# Altium schematic symbol library TEP-AltiumLib-Discretes.SCHLIB: 16 symbols
Pins are listed as number, name and electrical type; pins without a type are passive.

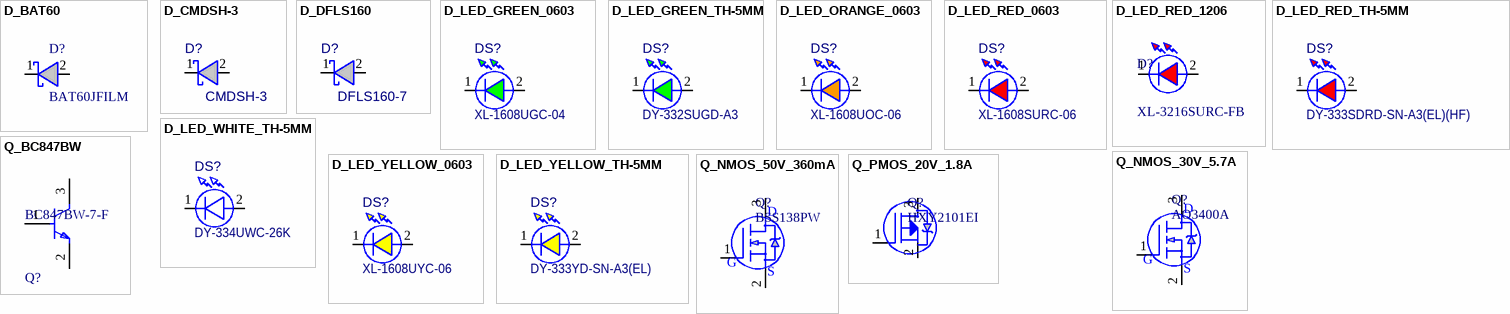
[diagram p0: symbols D_BAT60 to Q_PMOS_20V_1.8A]

## D_BAT60
designator D?, comment BAT60JFILM
Schottky Diode 10V 3A SOD323; Manufacturer 1: ST; Manufacturer Part Number 1: BAT60JFILM; Mounting Technology: SMT; Supplier 1: LCSC; Supplier Part Number 1: C133103
footprint D_SOD323N
pins: 1 K, 2 A

## D_CMDSH-3
designator D?, comment CMDSH-3
Schottky Diode 30V 100mA SOD-323; Manufacturer 1: Central Semiconductor; Value: CMDSH-3; Manufacturer Part Number 1: CMDSH-3; Mounting Technology: SMT; Supplier 1: LCSC; Supplier Part Number 1: C5240485
footprint D_SOD323N
pins: 1 K, 2 A

## D_DFLS160
designator D?, comment DFLS160-7
Schottky Diode 60V 1A; Manufacturer 1: Diodes Incorporated; Value: DFLS160-7; Manufacturer Part Number 1: DFLS160-7; Mounting Technology: SMT; Supplier 1: LCSC; Supplier 2: DigiKey; Supplier Part Number 1: C177023; Supplier Part Number 2: DFLS160DICT-ND
footprint D_SOD123 (diode)
pins: 1 K, 2 A

## D_LED_GREEN_0603
designator DS?, comment XL-1608UGC-04
LED Green Clear 40mcd 140deg; Manufacturer 1: XINGLIGHT; Code CEGEP: KLEDVC0603; Value: Green; Manufacturer 2: Wurth; Manufacturer Part Number 1: XL-1608UGC-04; Manufacturer Part Number 2: 150060VS75000; Mounting Technology: SMT; Supplier 1: LCSC; Supplier 2: Digikey; Supplier Part Number 1: C965804; Supplier Part Number 2: 732-4980-1-ND
footprint D_LED_0603 (Chip LED, 2-Leads, Body 1.6x0.8mm, IPC Medium Density)
pins: 1 K, 2 A

## D_LED_GREEN_TH-5MM
designator DS?, comment DY-332SUGD-A3
LED Green Difused; Manufacturer 1: TONYU; Value: Verte; Manufacturer Part Number 1: DY-332SUGD-A3; Mounting Technology: TH; Supplier 1: LCSC; Supplier Part Number 1: C7470788
footprint D_LED_TH_5MM_VERT (LED Green 5mm, 2-Leads 2.54mm)
pins: 1 K, 2 A

## D_LED_ORANGE_0603
designator DS?, comment XL-1608UOC-06
LED Orange Clear; Manufacturer 1: XINGLIGHT; Code CEGEP: KLEDOC0603; Value: Orange; Manufacturer 2: Wurth; Manufacturer Part Number 1: XL-1608UOC-06; Manufacturer Part Number 2: 150060AS75000; Mounting Technology: SMT; Supplier 1: LCSC; Supplier 2: Digikey; Supplier Part Number 1: C965800; Supplier Part Number 2: 732-150060AS75000CT-ND
footprint D_LED_0603 (Chip LED, 2-Leads, Body 1.6x0.8mm, IPC Medium Density)
pins: 1 K, 2 A

## D_LED_RED_0603
designator DS?, comment XL-1608SURC-06
LED Red Clear 60mcd 140deg; Manufacturer 1: XINGLIGHT; Code CEGEP: KLEDRC0603; Value: Red; Manufacturer 2: Wurth; Manufacturer Part Number 1: XL-1608SURC-06; Manufacturer Part Number 2: 150060SS75000; Mounting Technology: SMT; Supplier 1: LCSC; Supplier 2: Digikey; Supplier Part Number 1: C965799; Supplier Part Number 2: 732-4979-1-ND
footprint D_LED_0603 (Chip LED, 2-Leads, Body 1.6x0.8mm, IPC Medium Density)
pins: 1 K, 2 A

## D_LED_RED_1206
designator D?, comment XL-3216SURC-FB
DEL Rouge 1206; Manufacturer 1: XINGLIGHT; Code CEGEP: LEDROUGECLAIR; Localisation: AVP-14; Manufacturer Part Number 1: XL-3216SURC-FB; Supplier 1: LCSC; Supplier Part Number 1: C3646938; Manufacturer 2: Würth Elektronik; Manufacturer Part Number 2: 150120RS75000; Supplier 2: Digikey; Supplier Part Number 2: 732-4991-1-ND; Mounting Technology: SMT
footprint LED 1206
pins: 1 K, 2 A

## D_LED_RED_TH-5MM
designator DS?, comment DY-333SDRD-SN-A3(EL)(HF)
LED Red Difused; Manufacturer 1: TONYU; Value: Rouge; Manufacturer Part Number 1: DY-333SDRD-SN-A3(EL)(HF); Mounting Technology: TH; Supplier 1: LCSC; Supplier Part Number 1: C7470717
footprint D_LED_TH_5MM_ROUGE (LED Red 5mm, 2-Leads 2.54mm)
pins: 1 K, 2 A

## D_LED_WHITE_TH-5MM
designator DS?, comment DY-334UWC-26K
LED White Clear; Manufacturer 1: TONYU; Value: Blanche; Manufacturer Part Number 1: DY-334UWC-26K; Mounting Technology: TH; Supplier 1: LCSC; Supplier Part Number 1: C7433012
footprint D_LED_TH_5MM_CLEAR (LED Clear 5mm, 2-Leads 2.54mm)
pins: 1 K, 2 A

## D_LED_YELLOW_0603
designator DS?, comment XL-1608UYC-06
LED Yellow Clear; Manufacturer 1: XINGLIGHT; Value: Jaune; Code CEGEP: KLEDJC0603; Manufacturer 2: Wurth; Manufacturer Part Number 1: XL-1608UYC-06; Manufacturer Part Number 2: 150060YS75000; Mounting Technology: SMT; Supplier 1: LCSC; Supplier 2: Digikey; Supplier Part Number 1: C965802; Supplier Part Number 2: 732-4981-1-ND
footprint D_LED_0603 (Chip LED, 2-Leads, Body 1.6x0.8mm, IPC Medium Density)
pins: 1 K, 2 A

## D_LED_YELLOW_TH-5MM
designator DS?, comment DY-333YD-SN-A3(EL)
LED Yellow Difused; Manufacturer 1: TONYU; Value: Jaune; Manufacturer Part Number 1: DY-333YD-SN-A3(EL); Mounting Technology: TH; Supplier 1: LCSC; Supplier Part Number 1: C7470706
footprint D_LED_TH_5MM_JAUNE (LED Yellow 5mm, 2-Leads 2.54mm)
pins: 1 K, 2 A

## Q_BC847BW
designator Q?, comment BC847BW-7-F
TRANS NPN 45V 0.1A SC70-3; Manufacturer 1: Diodes Inc; Manufacturer Part Number 1: BC847BW-7-F
footprint SOT323-IPC_B
footprint SOT323-IPC_C
footprint SOT323-IPC_A
pins: 1 B, 2 E, 3 C

## Q_NMOS_30V_5.7A
designator Q?, comment AO3400A
MOSFET N-CH 30V 5.7A SOT-23; Manufacturer 1: AOS; Manufacturer Part Number 1: AO3400A; Mounting Technology: SMT; Supplier 1: LCSC; Supplier Part Number 1: C20917; Supplier 2: DigiKey; Supplier Part Number 2: 785-1000-1-ND
footprint SOT23-3L(TO-236)
footprint SOT23-3N(TO-236) (SOT23, 3-Leads, Body 2.9x1.3mm, Pitch 0.95mm, Lead Span 2.5mm, IPC Medium Density)
pins: 1 G, 2 S, 3 D

## Q_NMOS_50V_360mA
designator Q?, comment BSS138PW
MOSFET N-CH 50V 360mA SOT-323; Manufacturer 1: Tech Public; Manufacturer Part Number 1: BSS138PW; Mounting Technology: SMT; Supplier 1: LCSC; Supplier Part Number 1: C18212688
footprint SOT-323 (SOT23, 3-Leads, Body 2,00x2,28mm, Pitch 0,65mm, IPC Medium Density)
pins: 1 G, 2 S, 3 D

## Q_PMOS_20V_1.8A
designator Q?, comment HXY2101EI
MOSFET P-CH 20V 1.8A SOT-323; Manufacturer 1: HXY Mosfet; Manufacturer Part Number 1: HXY2101EI; Supplier 1: LCSC; Supplier Part Number 1: C5148643; Manufacturer 2: MCC; Manufacturer Part Number 2: SI2101A-TP; Supplier 2: Digikey; Supplier Part Number 2: 353-SI2101A-TPCT-ND; Mounting Technology: SMT
footprint SOT-323 (SOT23, 3-Leads, Body 2,00x2,28mm, Pitch 0,65mm, IPC Medium Density)
pins: 1 GATE, 2 SOURCE, 3 DRAIN